# EAGLE library part FT231XS (library user)
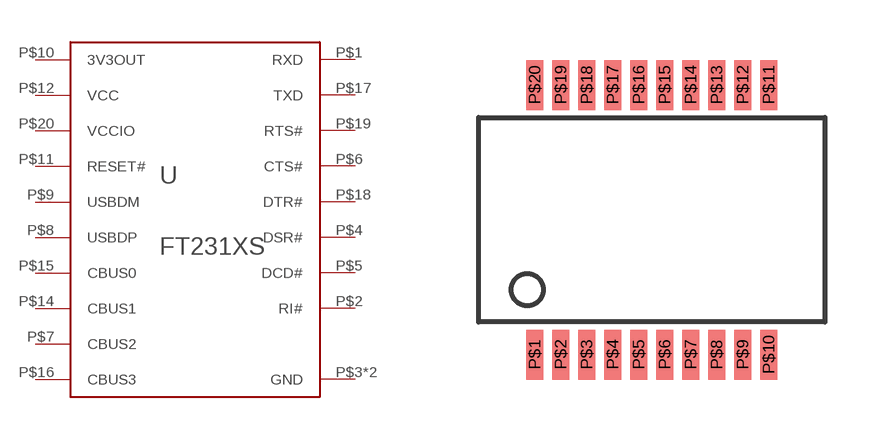
[diagram p4: symbol with the pads of SSOP20; footprint SSOP20]

Designator prefix -

## FT231XS  [SSOP20]
P$1  RXD
P$2  RI#
P$3  GND
P$4  DSR#
P$5  DCD#
P$6  CTS#
P$7  CBUS2
P$8  USBDP
P$9  USBDM
P$10  3V3OUT
P$11  RESET#
P$12  VCC
P$13  GND
P$14  CBUS1
P$15  CBUS0
P$16  CBUS3
P$17  TXD
P$18  DTR#
P$19  RTS#
P$20  VCCIO

## Footprint SSOP20 (pad centres in mm)
smd 0.42 x 1.25: P$1 -2.925,-3.375; P$2 -2.275,-3.375; P$3 -1.625,-3.375; P$4 -0.975,-3.375; P$5 -0.325,-3.375; P$6 0.325,-3.375; P$7 0.975,-3.375; P$8 1.625,-3.375; P$9 2.275,-3.375; P$10 2.925,-3.375; P$11 2.925,3.375; P$12 2.275,3.375; P$13 1.625,3.375; P$14 0.975,3.375; P$15 0.325,3.375; P$16 -0.325,3.375; P$17 -0.975,3.375; P$18 -1.625,3.375; P$19 -2.275,3.375; P$20 -2.925,3.375